# Altium footprint library SSOP-56_300mil.PcbLib: 1 footprints
Each footprint in its own frame and in the unit in brackets; x right, y up, seen from the top. Pads: shape width x height; smd on the part's side, far side on the other; paste and mask are expansions set on the pad; w line width, h text height; cw(c..) or ccw(c..) is an arc to the next point about the centre after c.
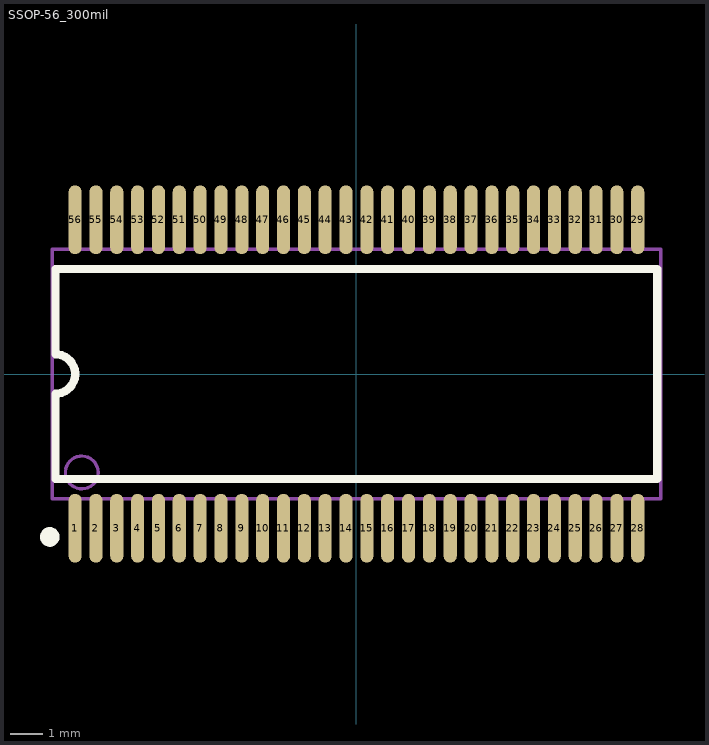
[diagram p0: the footprint, top view; thin cyan lines are the x and y axes]

## SSOP-56_300mil [mm]
pads (56):
  oval 0.4x2.1 smd mask+0.051: 1(-8.572,-4.7) 2(-7.937,-4.7) 3(-7.302,-4.7) 4(-6.667,-4.7) 5(-6.032,-4.7) 6(-5.397,-4.7) 7(-4.762,-4.7) 8(-4.127,-4.7) 9(-3.492,-4.7) 10(-2.857,-4.7) 11(-2.222,-4.7) 12(-1.587,-4.7) 13(-0.952,-4.7) 14(-0.317,-4.7) 15(0.318,-4.7) 16(0.953,-4.7) 17(1.588,-4.7) 18(2.223,-4.7) 19(2.858,-4.7) 20(3.493,-4.7) 21(4.128,-4.7) 22(4.763,-4.7) 23(5.398,-4.7) 24(6.033,-4.7) 25(6.668,-4.7) 26(7.303,-4.7) 27(7.938,-4.7) 28(8.573,-4.7) 29(8.573,4.7) 30(7.938,4.7) 31(7.303,4.7) 32(6.668,4.7) 33(6.033,4.7) 34(5.398,4.7) 35(4.763,4.7) 36(4.128,4.7) 37(3.493,4.7) 38(2.858,4.7) 39(2.223,4.7) 40(1.588,4.7) 41(0.953,4.7) 42(0.318,4.7) 43(-0.317,4.7) 44(-0.952,4.7) 45(-1.587,4.7) 46(-2.222,4.7) 47(-2.857,4.7) 48(-3.492,4.7) 49(-4.127,4.7) 50(-4.762,4.7) 51(-5.397,4.7) 52(-6.032,4.7) 53(-6.667,4.7) 54(-7.302,4.7) 55(-7.937,4.7) 56(-8.572,4.7)
Top Overlay:
  circle w0.3: c-9.345,-4.965 r0.15
  lines w0.254: -9.17,-3.2 9.17,-3.2 9.17,3.2 -9.17,3.2 -9.17,0.6 cw(c-9.17,0) -9.17,-0.6 -9.17,-3.2
Mechanical 13:
  circle w0.1: c-8.37,-3 r0.5
  lines w0.1: -9.27,-3.8 9.27,-3.8 9.27,3.8 -9.27,3.8 -9.27,-3.8